# Altium schematic symbol library Switch_SPST_Pushbutton_1.Schlib: 1 symbol
Pins are listed as number, name and electrical type; pins without a type are passive.

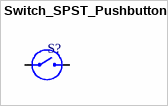
[diagram p0: symbol Switch_SPST_Pushbutton]

## Switch_SPST_Pushbutton
designator S?  (value not drawn)
footprint SWITCH_SPST
pins: 1, 2